# Altium schematic symbol library WPME-FIMM.SchLib: 1 symbol
Pins are listed as number, name and electrical type; pins without a type are passive.

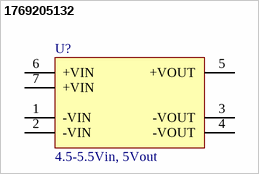
[diagram p0: symbol 1769205132]

## 1769205132
designator U?, comment 4.5-5.5Vin, 5Vout
WPME-FIMM Fixed Isolated MicroModule, SMT, LGA-7, 4.5-5.5Vin, 5Vout, 1W; Manufacturer Part Number: 1769205132; Manufacturer: Wurth Elektronik; Input Voltage Min: 4.5V; Input Voltage Max: 5.5V; Isolation Voltage: 3000V; Output Voltage: 5V; Short Circuit Protection: Continuous; Type of Insulation: Functional; Category: Isolated Converter; Match Code: WPME-FIMM; ComponentLink1Description: Website Link; ComponentLink1URL: https://www.we-online.com/redexpert/article/1769205132?ad; ComponentLink2Description: Datasheet Link; ComponentLink2URL: https://www.we-online.com/redexpert/spec/1769205132?ad; Mount: Surface Mount; Min Operating Temperature: -40°C; Max Operating Temperature: 105°C; Packaging: Tray; Case/Size Code: LGA-7; Length: 9mm; Width: 7mm; Height: 3.1mm; Output Power: 1W
footprint WPME-FIMM_LGA-7_L9W7H3.1
pins: 1 -VIN, 2 -VIN, 3 -VOUT, 4 -VOUT, 5 +VOUT, 6 +VIN, 7 +VIN